# Altium schematic symbol library SCH - MCU - STM32 - ST MICROELECTRONICS STM32WB1MMCHX LGA77.SchLib: 1 symbol
Pins are listed as number, name and electrical type; pins without a type are passive.

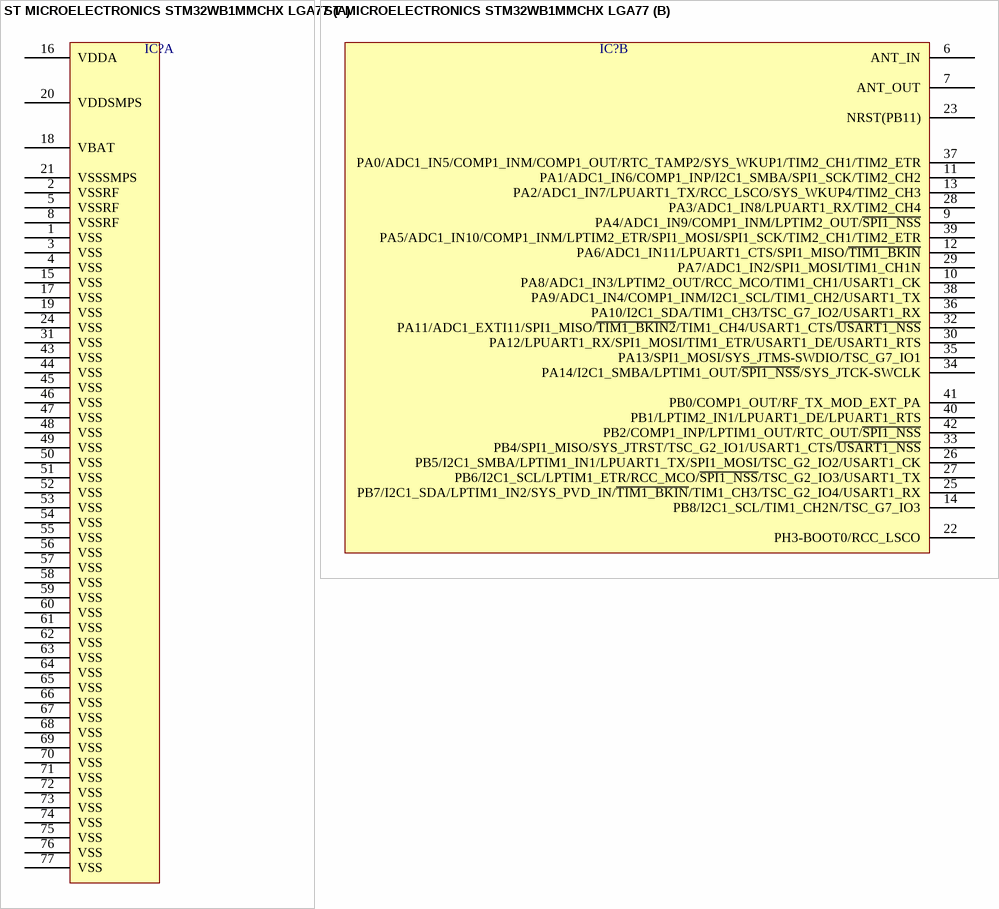
[diagram p0: symbol ST MICROELECTRONICS STM32WB1MMCHX LGA77]

## ST MICROELECTRONICS STM32WB1MMCHX LGA77
designator IC?  (value not drawn)
part A pins: 1 VSS, 2 VSSRF, 3 VSS, 4 VSS, 5 VSSRF, 8 VSSRF, 15 VSS, 16 VDDA, 17 VSS, 18 VBAT, 19 VSS, 20 VDDSMPS, 21 VSSSMPS, 24 VSS, 31 VSS, 43 VSS, 44 VSS, 45 VSS, 46 VSS, 47 VSS, 48 VSS, 49 VSS, 50 VSS, 51 VSS, 52 VSS, 53 VSS, 54 VSS, 55 VSS, 56 VSS, 57 VSS, 58 VSS, 59 VSS, 60 VSS, 61 VSS, 62 VSS, 63 VSS, 64 VSS, 65 VSS, 66 VSS, 67 VSS, 68 VSS, 69 VSS, 70 VSS, 71 VSS, 72 VSS, 73 VSS, 74 VSS, 75 VSS, 76 VSS, 77 VSS
part B pins: 6 ANT_IN, 7 ANT_OUT, 9 PA4/ADC1_IN9/COMP1_INM/LPTIM2_OUT/~{SPI1_NSS}, 10 PA8/ADC1_IN3/LPTIM2_OUT/RCC_MCO/TIM1_CH1/USART1_CK, 11 PA1/ADC1_IN6/COMP1_INP/I2C1_SMBA/SPI1_SCK/TIM2_CH2, 12 PA6/ADC1_IN11/LPUART1_CTS/SPI1_MISO/~{TIM1_BKIN}, 13 PA2/ADC1_IN7/LPUART1_TX/RCC_LSCO/SYS_WKUP4/TIM2_CH3, 14 PB8/I2C1_SCL/TIM1_CH2N/TSC_G7_IO3, 22 PH3-BOOT0/RCC_LSCO, 23 NRST(PB11), 25 PB7/I2C1_SDA/LPTIM1_IN2/SYS_PVD_IN/~{TIM1_BKIN}/TIM1_CH3/TSC_G2_IO4/USART1_RX, 26 PB5/I2C1_SMBA/LPTIM1_IN1/LPUART1_TX/SPI1_MOSI/TSC_G2_IO2/USART1_CK, 27 PB6/I2C1_SCL/LPTIM1_ETR/RCC_MCO/~{SPI1_NSS}/TSC_G2_IO3/USART1_TX, 28 PA3/ADC1_IN8/LPUART1_RX/TIM2_CH4, 29 PA7/ADC1_IN2/SPI1_MOSI/TIM1_CH1N, 30 PA12/LPUART1_RX/SPI1_MOSI/TIM1_ETR/USART1_DE/USART1_RTS, 32 PA11/ADC1_EXTI11/SPI1_MISO/~{TIM1_BKIN2}/TIM1_CH4/USART1_CTS/~{USART1_NSS}, 33 PB4/SPI1_MISO/SYS_JTRST/TSC_G2_IO1/USART1_CTS/~{USART1_NSS}, 34 PA14/I2C1_SMBA/LPTIM1_OUT/~{SPI1_NSS}/SYS_JTCK-SWCLK, 35 PA13/SPI1_MOSI/SYS_JTMS-SWDIO/TSC_G7_IO1, 36 PA10/I2C1_SDA/TIM1_CH3/TSC_G7_IO2/USART1_RX, 37 PA0/ADC1_IN5/COMP1_INM/COMP1_OUT/RTC_TAMP2/SYS_WKUP1/TIM2_CH1/TIM2_ETR, 38 PA9/ADC1_IN4/COMP1_INM/I2C1_SCL/TIM1_CH2/USART1_TX, 39 PA5/ADC1_IN10/COMP1_INM/LPTIM2_ETR/SPI1_MOSI/SPI1_SCK/TIM2_CH1/TIM2_ETR, 40 PB1/LPTIM2_IN1/LPUART1_DE/LPUART1_RTS, 41 PB0/COMP1_OUT/RF_TX_MOD_EXT_PA, 42 PB2/COMP1_INP/LPTIM1_OUT/RTC_OUT/~{SPI1_NSS}